# Altium footprint library DSP.PcbLib: 11 footprints
Each footprint in its own frame and in the unit in brackets; x right, y up, seen from the top. Pads: shape width x height; smd on the part's side, far side on the other; paste and mask are expansions set on the pad; w line width, h text height; cw(c..) or ccw(c..) is an arc to the next point about the centre after c.
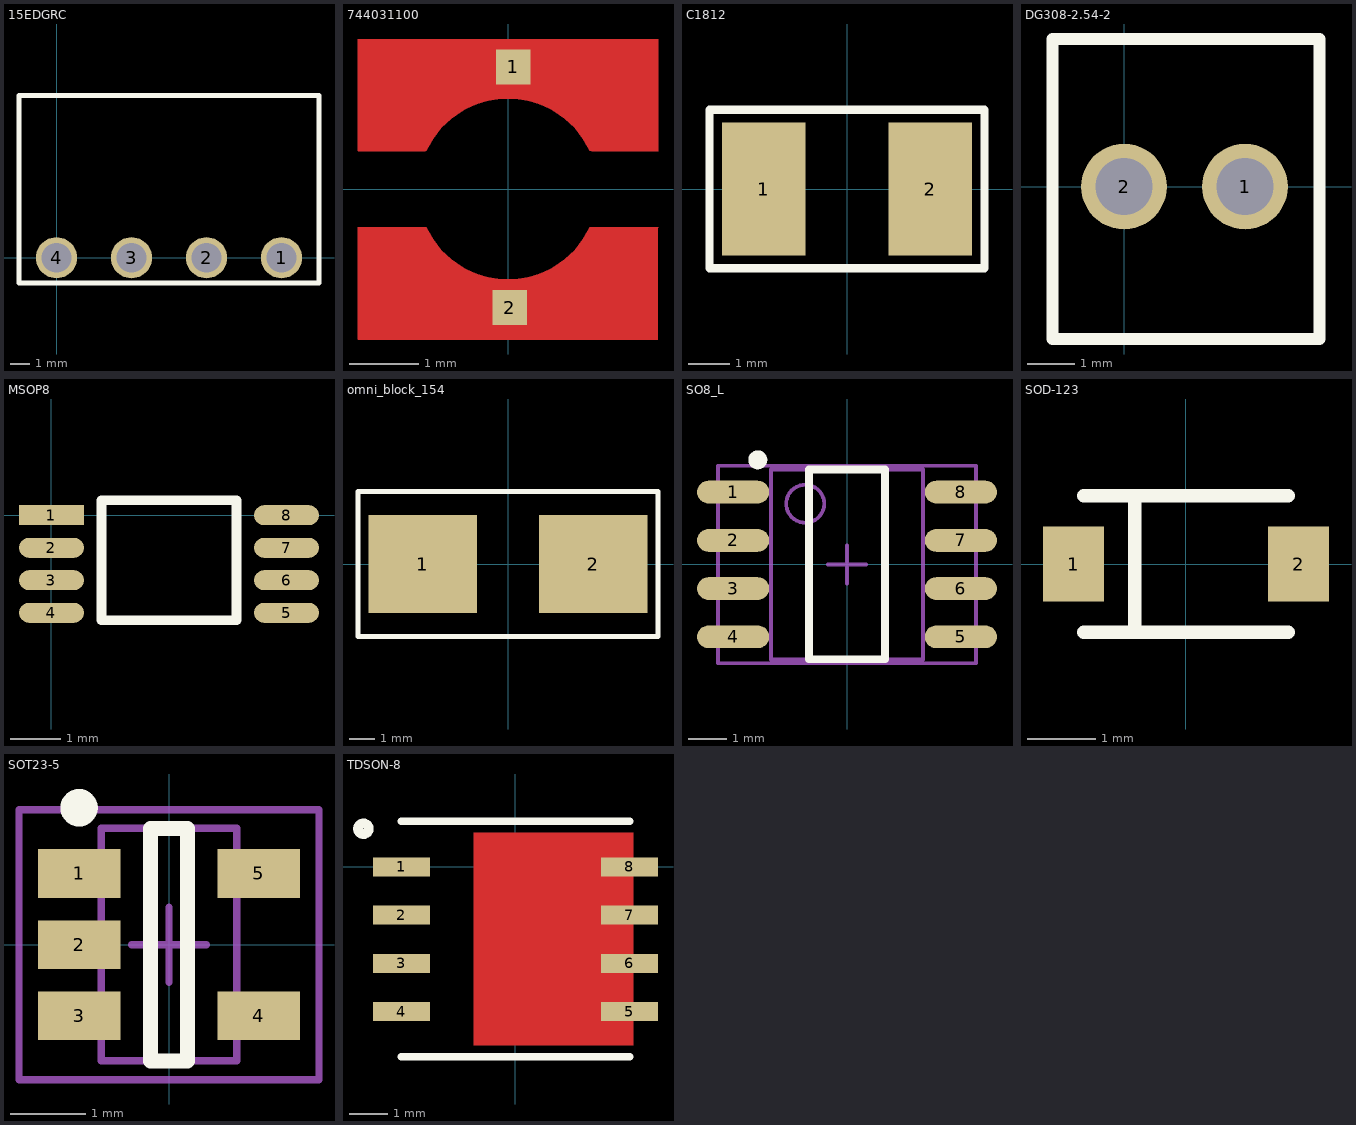
[diagram p0: the footprints below, top view; thin cyan lines are the x and y axes]

## 15EDGRC [mm]
pads (4):
  round 2.1 hole 1.5: 1(11.43,0) 2(7.62,0) 3(3.81,0) 4(0,0)
Top Overlay:
  lines w0.254: -1.905,-1.27 13.335,-1.27 13.335,8.255 -1.905,8.255 -1.905,-1.27
3D body "15EDG[K-RC]-3_81-04 (combination).STEP": height 7.38, standoff -3.62, extent -2.3,-1.27 13.73,17.08

## 744031100 [mm]
pads (2):
  rect 0.5x0.5 smd: 1(0.075,1.75) 2(0.025,-1.7)
Top Layer:
  region: -2.15,0.55 -2.15,2.15 2.15,2.15 2.15,0.55 1.2,0.55 1.178,0.549 1.121,0.658 0.977,0.857 0.799,1.026 0.592,1.157 0.364,1.248 0.123,1.294 -0.123,1.294 -0.364,1.248 -0.592,1.157 -0.799,1.026 -0.977,0.857 -1.121,0.658 -1.178,0.549 -1.186,0.55
  region: -2.15,-2.15 -2.15,-0.55 -1.178,-0.55 -1.178,-0.549 -1.121,-0.658 -0.977,-0.857 -0.799,-1.026 -0.592,-1.157 -0.364,-1.248 -0.123,-1.294 0.123,-1.294 0.364,-1.248 0.592,-1.157 0.799,-1.026 0.977,-0.857 1.121,-0.658 1.178,-0.549 1.2,-0.55 2.15,-0.55 2.15,-2.15
  lines w0.01: -1.186,0.55 -2.15,0.55 -2.15,2.15 2.15,2.15 2.15,0.55 1.2,0.55 ; -1.178,0.549 cw(c0,0) 1.178,0.549 ; 1.178,-0.549 cw(c0,0) -1.178,-0.549 -2.15,-0.55 -2.15,-2.15 2.15,-2.15 2.15,-0.55 1.2,-0.55

## C1812 [mm]
pads (2):
  rect 2x3.2 smd: 1(-2,0) 2(2,0)
Top Overlay:
  lines w0.2: -3.3,-1.9 -3.3,1.9 3.3,1.9 3.3,-1.9 -3.3,-1.9

## DG308-2.54-2 [mm]
pads (2):
  round 1.8 hole 1.2: 1(2.54,0) 2(0,0)
Top Overlay:
  lines w0.254: -1.5,-3.2 4.1,-3.2 4.1,3.1 -1.5,3.1 -1.5,-3.2

## MSOP8 [mm]
pads (8):
  rect 1.3x0.4 smd: 1(0,0)
  oval 1.3x0.4 smd: 2(0,-0.65) 3(0,-1.3) 4(0,-1.95) 5(4.7,-1.95) 6(4.7,-1.3) 7(4.7,-0.65) 8(4.7,0)
Top Overlay:
  lines w0.2: 1,-2.1 3.7,-2.1 3.7,0.3 1,0.3 1,-2.1
3D body "MSOP8.step": height 1.06, standoff -0.04, extent -0.069,-2.55 4.869,0.55

## omni_block_154 [mm]
pads (2):
  rect 4.2x3.8 smd: 1(-3.3,0) 2(3.3,0)
Top Overlay:
  lines w0.2: -5.8,-2.8 5.8,-2.8 5.8,2.8 -5.8,2.8 -5.8,-2.8
3D body "OMNI-BLOK littelfuse.step": height 3.81, standoff 0, extent -4.915,-2.5 4.915,2.53

## PCBComponent_1 [mm]

## SO8_L [mm] "SOIC, 8-Leads, Body 4.9x3.9mm, Pitch 1.27mm, IPC High Density"
height 1.75
pads (8):
  oval 1.9x0.6 smd: 1(-3,1.905) 2(-3,0.635) 3(-3,-0.635) 4(-3,-1.905) 5(3,-1.905) 6(3,-0.635) 7(3,0.635) 8(3,1.905)
Top Overlay:
  circle w0.25: c-2.35,2.755 r0.125
  lines w0.2: -1,-2.5 -1,2.5 1,2.5 1,-2.5 -1,-2.5
Mechanical 13:
  circle w0.1: c-1.1,1.6 r0.5
  lines w0.1: -2,-2.5 -2,2.5 2,2.5 2,-2.5 -2,-2.5
Mechanical 15:
  lines w0.1: -0.5,0 0.5,0 ; 0,-0.5 0,0.5 ; -3.4,-2.6 -3.4,2.6 3.4,2.6 3.4,-2.6 -3.4,-2.6
3D body: height 1.75, standoff 0, extent -2,-2.5 2,2.5

## SOD-123 [mm]
pads (2):
  rect 0.9x1.1 smd: 1(-1.65,0) 2(1.65,0)
Top Overlay:
  lines w0.2: -1.5,-1 1.5,-1 ; -1.5,1 1.5,1 ; -0.75,-1 -0.75,1

## SOT23-5 [mm] "SOT23, 6-Leads, Body 2.9x1.6mm, Pitch 0.95mm, Lead Span 2.7mm, IPC Medium Density"
height 1.45
pads (5):
  rect 1.1x0.65 smd: 1(-1.2,0.95) 2(-1.2,0) 3(-1.2,-0.95) 4(1.2,-0.95) 5(1.2,0.95)
Top Overlay:
  circle w0.25: c-1.2,1.825 r0.125
  lines w0.2: -0.25,-1.55 0.25,-1.55 0.25,1.55 -0.25,1.55 -0.25,-1.55
Mechanical 13:
  lines w0.1: -0.9,-1.55 -0.9,1.55 0.9,1.55 0.9,-1.55 -0.9,-1.55
Mechanical 15:
  lines w0.1: -0.5,0 0.5,0 ; 0,-0.5 0,0.5 ; -2,-1.8 -2,1.8 2,1.8 2,-1.8 -2,-1.8
3D body: height 1.45, standoff 0, extent -0.9,-1.55 0.9,1.55

## TDSON-8 [mm]
pads (8):
  rect 1.5x0.5 smd: 1(-3,0) 2(-3,-1.27) 3(-3,-2.54) 4(-3,-3.81) 5(3,-3.81) 6(3,-2.54) 7(3,-1.27) 8(3,0)
Top Layer:
  region: 3.1,0.9 -1.1,0.9 -1.1,-4.7 3.1,-4.7
Top Overlay:
  circle w0.254: c-4,1 r0.141
  lines w0.2: -3,-5 3,-5 ; -3,1.2 3,1.2
3D body "TDSON-8-1.step": height 1, standoff 0, extent -2.975,-4.575 3.175,0.775